# EAGLE library part TMC2160 (library Public)
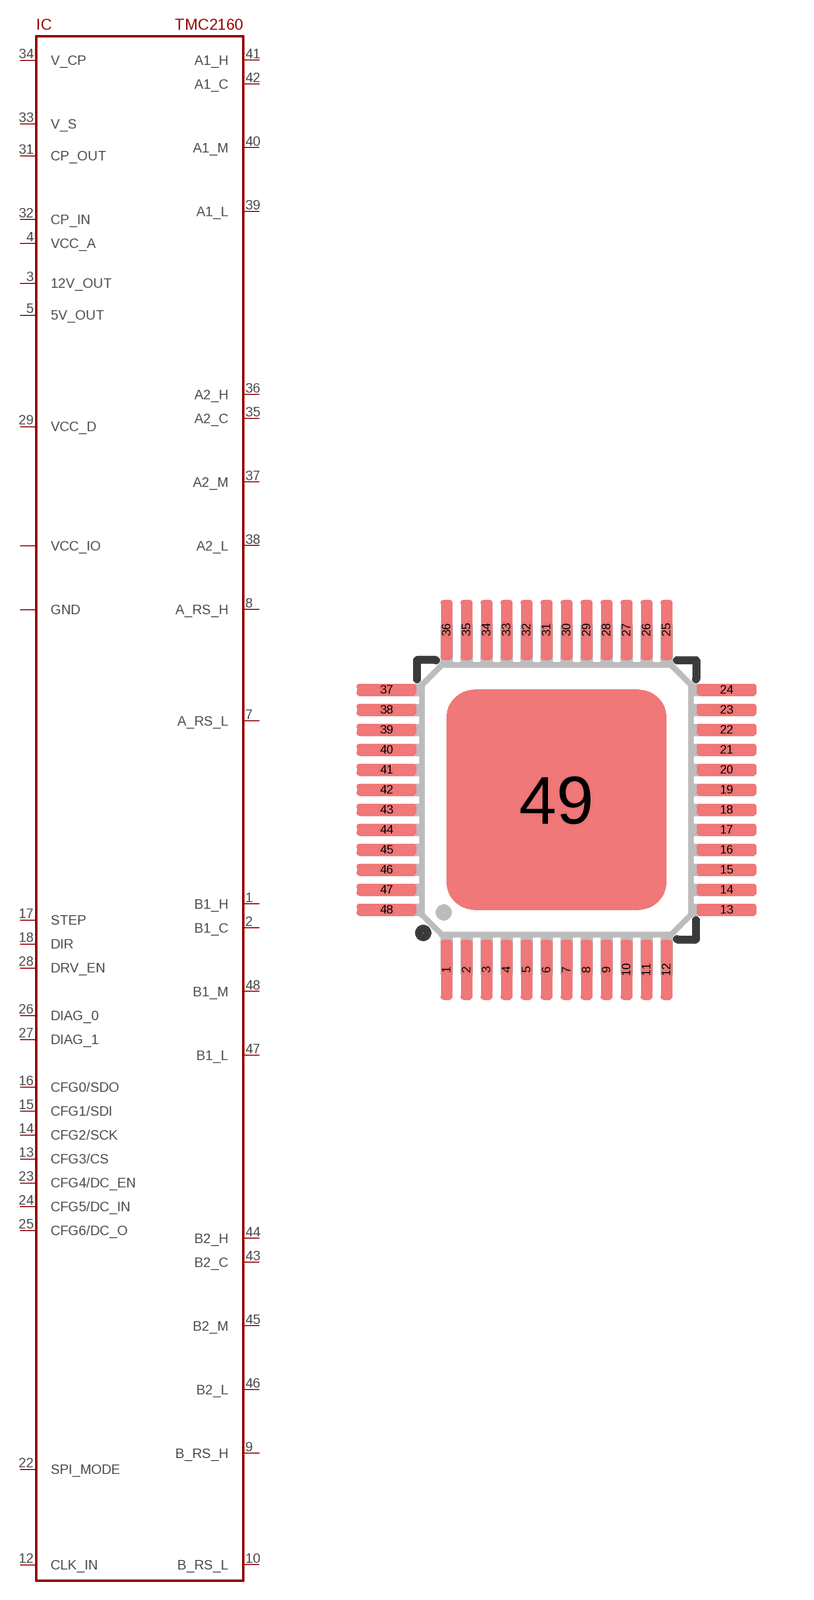
[diagram p196: symbol with the pads of TQFP48-0.5_POWERPAD; footprint TQFP48-0.5_POWERPAD]

Designator prefix IC

## TMC2160  [TQFP48-0.5_POWERPAD]
1  B1_H
2  B1_C
3  12V_OUT
4  VCC_A
5  5V_OUT
6  GND
7  A_RS_L
8  A_RS_H
9  B_RS_H
10  B_RS_L
11  GND
12  CLK_IN
13  CFG3/CS
14  CFG2/SCK
15  CFG1/SDI
16  CFG0/SDO
17  STEP
18  DIR
19  GND
20  VCC_IO
21  VCC_IO
22  SPI_MODE
23  CFG4/DC_EN
24  CFG5/DC_IN
25  CFG6/DC_O
26  DIAG_0
27  DIAG_1
28  DRV_EN
29  VCC_D
30  GND
31  CP_OUT
32  CP_IN
33  V_S
34  V_CP
35  A2_C
36  A2_H
37  A2_M
38  A2_L
39  A1_L
40  A1_M
41  A1_H
42  A1_C
43  B2_C
44  B2_H
45  B2_M
46  B2_L
47  B1_L
48  B1_M
49  GND

## Footprint TQFP48-0.5_POWERPAD (pad centres in mm)
smd 0.3 x 1.5: 1 -2.75,-4.25; 2 -2.25,-4.25; 3 -1.75,-4.25; 4 -1.25,-4.25; 5 -0.75,-4.25; 6 -0.25,-4.25; 7 0.25,-4.25; 8 0.75,-4.25; 9 1.25,-4.25; 10 1.75,-4.25; 11 2.25,-4.25; 12 2.75,-4.25; 25 2.75,4.25; 26 2.25,4.25; 27 1.75,4.25; 28 1.25,4.25; 29 0.75,4.25; 30 0.25,4.25; 31 -0.25,4.25; 32 -0.75,4.25; 33 -1.25,4.25; 34 -1.75,4.25; 35 -2.25,4.25; 36 -2.75,4.25
smd 1.5 x 0.3: 13 4.25,-2.75; 14 4.25,-2.25; 15 4.25,-1.75; 16 4.25,-1.25; 17 4.25,-0.75; 18 4.25,-0.25; 19 4.25,0.25; 20 4.25,0.75; 21 4.25,1.25; 22 4.25,1.75; 23 4.25,2.25; 24 4.25,2.75; 37 -4.25,2.75; 38 -4.25,2.25; 39 -4.25,1.75; 40 -4.25,1.25; 41 -4.25,0.75; 42 -4.25,0.25; 43 -4.25,-0.25; 44 -4.25,-0.75; 45 -4.25,-1.25; 46 -4.25,-1.75; 47 -4.25,-2.25; 48 -4.25,-2.75
smd 5.5 x 5.5: 49 0,0